# Altium schematic symbol library MIC184YM.SchLib: 1 symbol
Pins are listed as number, name and electrical type; pins without a type are passive.

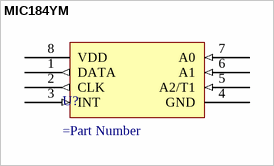
[diagram p0: symbol MIC184YM]

## MIC184YM
designator U?
=Description
pins: 1 DATA (out), 2 CLK (out), 3 INT (in), 4 GND (power), 5 A2/T1 (in), 6 A1 (in), 7 A0 (in), 8 VDD (power)